# Altium footprint library Chess Clock Component.PcbLib: 5 footprints
Each footprint in its own frame and in the unit in brackets; x right, y up, seen from the top. Pads: shape width x height; smd on the part's side, far side on the other; paste and mask are expansions set on the pad; w line width, h text height; cw(c..) or ccw(c..) is an arc to the next point about the centre after c.
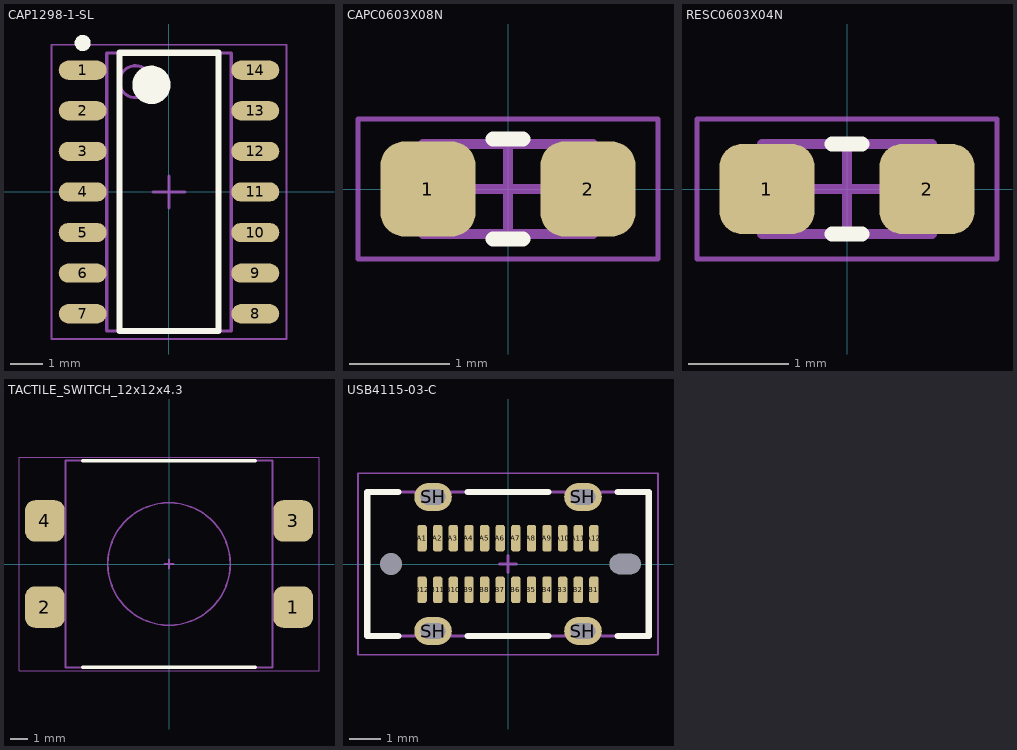
[diagram p0: the footprints below, top view; thin cyan lines are the x and y axes]

## CAP1298-1-SL [mm] "SOIC, 14-Leads, Body 8.65x3.90mm, Pitch 1.27mm, IPC Medium Density"
height 1.75
pads (14):
  oval 1.5x0.6 smd: 1(-2.7,3.81) 2(-2.7,2.54) 3(-2.7,1.27) 4(-2.7,0) 5(-2.7,-1.27) 6(-2.7,-2.54) 7(-2.7,-3.81) 8(2.7,-3.81) 9(2.7,-2.54) 10(2.7,-1.27) 11(2.7,0) 12(2.7,1.27) 13(2.7,2.54) 14(2.7,3.81)
Top Overlay:
  circle w0.25: c-2.7,4.66 r0.125
  circle w0.6: c-0.55,3.35 r0.3
  lines w0.2: -1.55,-4.35 -1.55,4.35 1.55,4.35 1.55,-4.35 -1.55,-4.35
Top Assembly:
  circle w0.1: c-1.05,3.45 r0.5
  lines w0.1: -1.95,-4.35 -1.95,4.35 1.95,4.35 1.95,-4.35 -1.95,-4.35
Top Courtyard:
  lines w0.05: -3.675,-4.6 -3.675,4.6 3.675,4.6 3.675,-4.6 -3.675,-4.6
  lines w0.1: -0.5,0 0.5,0 ; 0,-0.5 0,0.5
Top 3D Body:
  text "'.Designator'" at 0.339,-3.628 h1.5
3D body "SOIC127P600X175-14N.step": height 1.75, standoff 0, extent -3,-4.35 3,4.35

## CAPC0603X08N [mm] "Chip Capacitor, 2-Leads, Body 1.60x0.80mm, IPC Medium Density"
height 0.8
pads (2):
  rrect50% 0.95x0.95 smd: 1(-0.8,0) 2(0.8,0)
Top Overlay:
  lines w0.15: -0.15,-0.5 0.15,-0.5 ; -0.15,0.5 0.15,0.5
Top Assembly:
  lines w0.1: -0.85,-0.45 -0.85,0.45 0.85,0.45 0.85,-0.45 -0.85,-0.45
  text "'.Designator'" at -1.451,-0.136 h0.6
Top Courtyard:
  lines w0.05: -1.5,-0.7 -1.5,0.7 1.5,0.7 1.5,-0.7 -1.5,-0.7
  lines w0.1: -0.4,0 0.4,0 ; 0,-0.4 0,0.4
3D body "CAP 0603.STEP": height 0.84, standoff 0.01, extent -0.8,-0.412 0.8,0.412

## RESC0603X04N [mm] "Chip Resistor, 2-Leads, Body 1.60x0.80mm, IPC Medium Density"
height 0.45
pads (2):
  rrect50% 0.95x0.9 smd: 1(-0.8,0) 2(0.8,0)
Top Overlay:
  lines w0.15: -0.15,-0.45 0.15,-0.45 ; -0.15,0.45 0.15,0.45
Top Assembly:
  lines w0.1: -0.85,-0.45 -0.85,0.45 0.85,0.45 0.85,-0.45 -0.85,-0.45
  text "'.Designator'" at -1.451,-0.136 h0.6
Top Courtyard:
  lines w0.05: -1.5,-0.7 1.5,-0.7 1.5,0.7 -1.5,0.7 -1.5,-0.7
  lines w0.1: -0.45,0 0.45,0 ; 0,-0.45 0,0.45
3D body "RES 0603.STEP": height 0.46, standoff 0.01, extent -0.8,-0.4 0.8,0.4

## TACTILE_SWITCH_12x12x4.3 [mm] "TACTILES WITCH 12x12x4.3mm"
height 4.3
pads (4):
  rrect50% 2.3x2.4 smd: 1(7.2,-2.5) 2(-7.2,-2.5) 3(7.2,2.5) 4(-7.2,2.5)
Top Overlay:
  lines w0.2: -5,-6 5,-6 ; -5,6 5,6
Top Assembly:
  circle w0.1: c0,0 r3.55
  lines w0.1: -6,-6 6,-6 6,6 -6,6 -6,-6
Top Courtyard:
  lines w0.05: -8.7,-6.2 -8.7,6.2 8.7,6.2 8.7,-6.2 -8.7,-6.2
  lines w0.1: -0.275,0 0.275,0 ; 0,-0.275 0,0.275
Top 3D Body:
  text "'.Designator'" at -3.628,-0.339 h1.5
3D body "tactile-switch-12x12x4.3.STEP": height 4.31, standoff 0.01, extent -7.5,-6 7.5,6

## USB4115-03-C [mm] "CONN USB3.1 TYPE-C VERT SOCKET"
height 9.25
pads (30):
  rrect50% 0.3x0.85 smd: A1(-2.75,0.825) A2(-2.25,0.825) A3(-1.75,0.825) A4(-1.25,0.825) A5(-0.75,0.825) A6(-0.25,0.825) A7(0.25,0.825) A8(0.75,0.825) A9(1.25,0.825) A10(1.75,0.825) A11(2.25,0.825) A12(2.75,0.825) B1(2.75,-0.825) B2(2.25,-0.825) B3(1.75,-0.825) B4(1.25,-0.825) B5(0.75,-0.825) B6(0.25,-0.825) B7(-0.25,-0.825) B8(-0.75,-0.825) B9(-1.25,-0.825) B10(-1.75,-0.825) B11(-2.25,-0.825) B12(-2.75,-0.825)
  oval 1.2x0.9 hole 0.8 slot 0.5 at 90 deg: SH(-2.4,-2.145) SH(-2.4,2.145) SH(2.4,-2.145) SH(2.4,2.145)
  rrect50% 0x0 hole 0.7 unplated: ""(-3.75,0)
  rrect50% 0x0 hole 0.65 slot 1 at 0 deg unplated: ""(3.75,0)
Top Overlay:
  lines w0.2: -3.5,-2.3 -4.5,-2.3 -4.5,2.3 -3.5,2.3 ; -1.3,-2.3 1.3,-2.3 ; -1.3,2.3 1.3,2.3 ; 3.5,-2.3 4.5,-2.3 4.5,2.3 3.5,2.3
Top Assembly:
  lines w0.1: -4.5,-2.3 4.5,-2.3 4.5,2.3 -4.5,2.3 -4.5,-2.3
Top Courtyard:
  lines w0.05: -4.8,-2.9 -4.8,2.9 4.8,2.9 4.8,-2.9 -4.8,-2.9
  lines w0.1: -0.275,0 0.275,0 ; 0,-0.275 0,0.275
Top 3D Body:
  text "'.Designator'" at -3.628,-0.339 h1.5
3D body "USB4115-03-C.stp": height 9.34, standoff -1.06, extent -4.47,-2.3 4.47,2.3